# Altium footprint library IC_SMD_DUAL.PCBLIB: 187 footprints (part 8 of 12)
Each footprint in its own frame and in the unit in brackets; x right, y up, seen from the top. Pads: shape width x height; smd on the part's side, far side on the other; paste and mask are expansions set on the pad; w line width, h text height; cw(c..) or ccw(c..) is an arc to the next point about the centre after c.
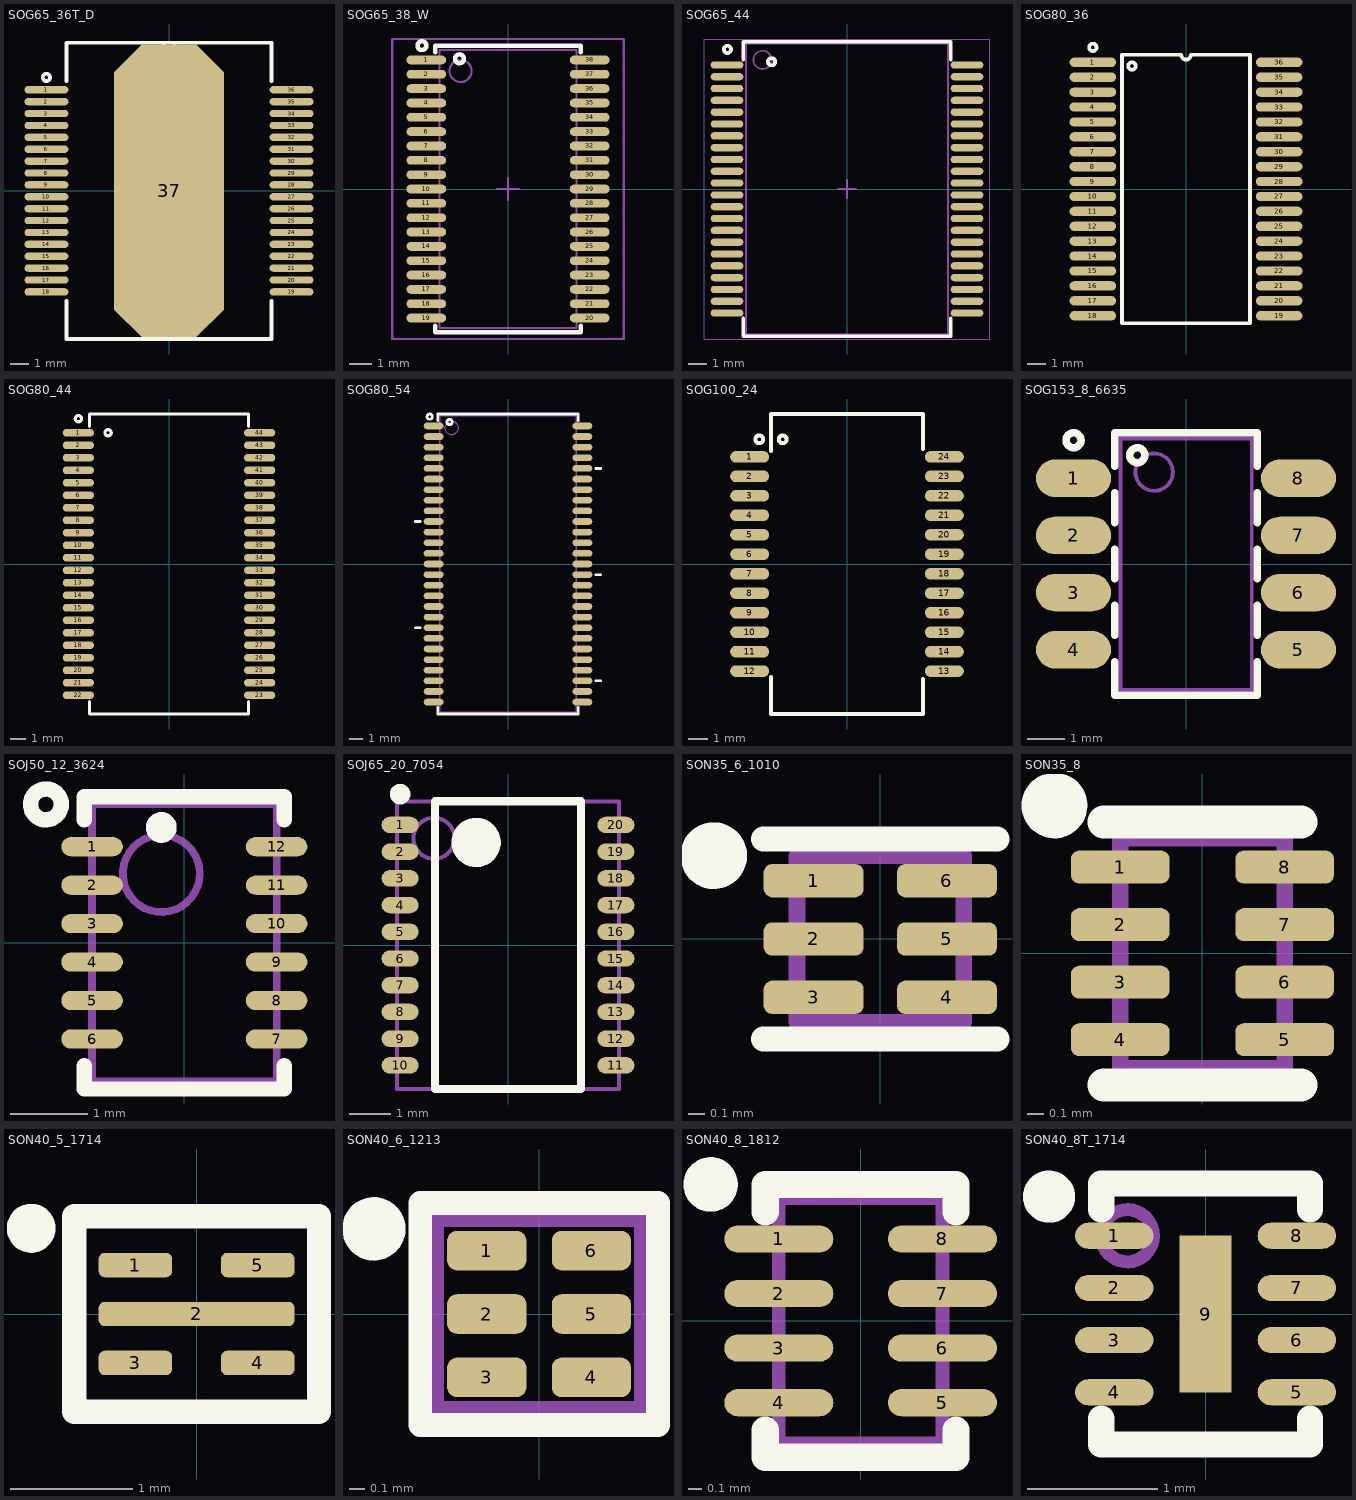
[diagram p7: the footprints below, top view; thin cyan lines are the x and y axes]

## SOG65_36T_D [mm] "HSSOP 36 DKD 11mm Width, 0.65mm pitch"
height 0.254
pads (37):
  oval 2.4x0.4 smd mask+0.075: 1(-6.7,5.525) 2(-6.7,4.875) 3(-6.7,4.225) 4(-6.7,3.575) 5(-6.7,2.925) 6(-6.7,2.275) 7(-6.7,1.625) 8(-6.7,0.975) 9(-6.7,0.325) 10(-6.7,-0.325) 11(-6.7,-0.975) 12(-6.7,-1.625) 13(-6.7,-2.275) 14(-6.7,-2.925) 15(-6.7,-3.575) 16(-6.7,-4.225) 17(-6.7,-4.875) 18(-6.7,-5.525) 19(6.7,-5.525) 20(6.7,-4.875) 21(6.7,-4.225) 22(6.7,-3.575) 23(6.7,-2.925) 24(6.7,-2.275) 25(6.7,-1.625) 26(6.7,-0.975) 27(6.7,-0.325) 28(6.7,0.325) 29(6.7,0.975) 30(6.7,1.625) 31(6.7,2.275) 32(6.7,2.925) 33(6.7,3.575) 34(6.7,4.225) 35(6.7,4.875) 36(6.7,5.525)
  oct 6x16 smd paste-8 mask+0.1: 37(0,0)
TopOverlay:
  circle w0.2: c-6.7,6.2 r0.2
  lines w0.2: -5.6,-6 -5.6,-8.1 5.6,-8.1 5.6,-6 ; -5.6,6 -5.6,8.1 5.6,8.1 5.6,6 ; -0.3,8.001 ccw(c0,8.001) 0.3,8.001
TopPaste:
  rectangle: -1.2,-1.2 -0.2,-0.2
  rectangle: -2.6,-2.6 -1.6,-1.6
  rectangle: -1.2,-2.6 -0.2,-1.6
  region: -1.6,-0.2 -2.6,-0.2 -2.6,-1.2 -1.6,-1.2
  rectangle: -1.2,-4 -0.2,-3
  rectangle: -2.6,-4 -1.6,-3
  rectangle: -1.2,-5.4 -0.2,-4.4
  rectangle: -2.6,-5.4 -1.6,-4.4
  rectangle: -1.2,-6.8 -0.2,-5.8
  rectangle: -2.6,-6.8 -1.6,-5.8
  region: 2.6,-5.8 1.6,-5.8 1.6,-6.8 2.6,-6.8
  region: 1.2,-5.8 0.2,-5.8 0.2,-6.8 1.2,-6.8
  region: 2.6,-4.4 1.6,-4.4 1.6,-5.4 2.6,-5.4
  region: 1.2,-4.4 0.2,-4.4 0.2,-5.4 1.2,-5.4
  region: 2.6,-3 1.6,-3 1.6,-4 2.6,-4
  region: 1.2,-3 0.2,-3 0.2,-4 1.2,-4
  rectangle: 1.6,-1.2 2.6,-0.2
  region: 1.2,-1.6 0.2,-1.6 0.2,-2.6 1.2,-2.6
  region: 2.6,-1.6 1.6,-1.6 1.6,-2.6 2.6,-2.6
  region: 1.2,-0.2 0.2,-0.2 0.2,-1.2 1.2,-1.2
  region: 1.2,1.2 0.2,1.2 0.2,0.2 1.2,0.2
  region: 2.6,2.6 1.6,2.6 1.6,1.6 2.6,1.6
  region: 1.2,2.6 0.2,2.6 0.2,1.6 1.2,1.6
  rectangle: 1.6,0.2 2.6,1.2
  region: 1.2,4 0.2,4 0.2,3 1.2,3
  region: 2.6,4 1.6,4 1.6,3 2.6,3
  region: 1.2,5.4 0.2,5.4 0.2,4.4 1.2,4.4
  region: 2.6,5.4 1.6,5.4 1.6,4.4 2.6,4.4
  region: 1.2,6.8 0.2,6.8 0.2,5.8 1.2,5.8
  region: 2.6,6.8 1.6,6.8 1.6,5.8 2.6,5.8
  rectangle: -2.6,5.8 -1.6,6.8
  rectangle: -1.2,5.8 -0.2,6.8
  rectangle: -2.6,4.4 -1.6,5.4
  rectangle: -1.2,4.4 -0.2,5.4
  rectangle: -2.6,3 -1.6,4
  rectangle: -1.2,3 -0.2,4
  region: -1.6,1.2 -2.6,1.2 -2.6,0.2 -1.6,0.2
  rectangle: -1.2,1.6 -0.2,2.6
  rectangle: -2.6,1.6 -1.6,2.6
  rectangle: -1.2,0.2 -0.2,1.2
3D body "User Library-HSSOP36.STEP": height 3.59, standoff -0.01, extent -7.1,-7.95 7.1,7.95

## SOG65_38_W [mm] "DA, DAE TSSOP (TI), MO-153-DD-1 (JEDEC), 38Lead, pitch: 0.65mm, 12.5x6.1x1.2mm"
height 1.2
pads (38):
  oval 1.8x0.4 smd mask+0.075: 1(-3.7,5.85) 2(-3.7,5.2) 3(-3.7,4.55) 4(-3.7,3.9) 5(-3.7,3.25) 6(-3.7,2.6) 7(-3.7,1.95) 8(-3.7,1.3) 9(-3.7,0.65) 10(-3.7,0) 11(-3.7,-0.65) 12(-3.7,-1.3) 13(-3.7,-1.95) 14(-3.7,-2.6) 15(-3.7,-3.25) 16(-3.7,-3.9) 17(-3.7,-4.55) 18(-3.7,-5.2) 19(-3.7,-5.85) 20(3.7,-5.85) 21(3.7,-5.2) 22(3.7,-4.55) 23(3.7,-3.9) 24(3.7,-3.25) 25(3.7,-2.6) 26(3.7,-1.95) 27(3.7,-1.3) 28(3.7,-0.65) 29(3.7,0) 30(3.7,0.65) 31(3.7,1.3) 32(3.7,1.95) 33(3.7,2.6) 34(3.7,3.25) 35(3.7,3.9) 36(3.7,4.55) 37(3.7,5.2) 38(3.7,5.85)
TopOverlay:
  circle w0.2: c-2.2,5.9 r0.2
  circle w0.2: c-3.9,6.5 r0.2
  lines w0.2: -3.3,-6.2 -3.3,-6.5 3.3,-6.5 3.3,-6.2 ; -3.3,6.2 -3.3,6.5 3.3,6.5 3.3,6.2
Mechanical13:
  circle w0.1: c-2.15,5.35 r0.5
  lines w0.1: -3.1,-6.3 3.1,-6.3 3.1,6.3 -3.1,6.3 -3.1,-6.3
Mechanical15:
  lines w0.1: -0.5,0 0.5,0 ; 0,-0.5 0,0.5 ; -5.25,-6.8 5.25,-6.8 5.25,6.8 -5.25,6.8 -5.25,-6.8
3D body: height 1.2, standoff 0.05, extent -3.1,-6.3 3.1,6.3

## SOG65_44 [mm] "HSSOP-44, 11mm Width, 0.65mm pitch"
height 3.6
pads (44):
  oval 1.8x0.4 smd mask+0.075: 1(-6.6,6.825) 2(-6.6,6.175) 3(-6.6,5.525) 4(-6.6,4.875) 5(-6.6,4.225) 6(-6.6,3.575) 7(-6.6,2.925) 8(-6.6,2.275) 9(-6.6,1.625) 10(-6.6,0.975) 11(-6.6,0.325) 12(-6.6,-0.325) 13(-6.6,-0.975) 14(-6.6,-1.625) 15(-6.6,-2.275) 16(-6.6,-2.925) 17(-6.6,-3.575) 18(-6.6,-4.225) 19(-6.6,-4.875) 20(-6.6,-5.525) 21(-6.6,-6.175) 22(-6.6,-6.825) 23(6.6,-6.825) 24(6.6,-6.175) 25(6.6,-5.525) 26(6.6,-4.875) 27(6.6,-4.225) 28(6.6,-3.575) 29(6.6,-2.925) 30(6.6,-2.275) 31(6.6,-1.625) 32(6.6,-0.975) 33(6.6,-0.325) 34(6.6,0.325) 35(6.6,0.975) 36(6.6,1.625) 37(6.6,2.275) 38(6.6,2.925) 39(6.6,3.575) 40(6.6,4.225) 41(6.6,4.875) 42(6.6,5.525) 43(6.6,6.175) 44(6.6,6.825)
TopOverlay:
  circle w0.2: c-4.15,7 r0.2
  circle w0.2: c-6.575,7.675 r0.2
  lines w0.2: -5.7,-7.1 -5.7,-8.1 5.7,-8.1 5.7,-7.1 ; -5.7,7.1 -5.7,8.1 5.7,8.1 5.7,7.1
Mechanical13:
  circle w0.1: c-4.65,7.1 r0.5
  lines w0.1: -5.55,-8 5.55,-8 5.55,8 -5.55,8 -5.55,-8
Mechanical15:
  lines w0.05: -7.85,-8.25 7.85,-8.25 7.85,8.25 -7.85,8.25 -7.85,-8.25
  lines w0.1: -0.5,0 0.5,0 ; 0,-0.5 0,0.5
3D body "SA57AHU.step": height 3.6, standoff 0, extent -7.1,-8 7.1,8

## SOG80_36 [mm]
pads (36):
  oval 2.5x0.5 smd: 1(-5,6.8) 2(-5,6) 3(-5,5.2) 4(-5,4.4) 5(-5,3.6) 6(-5,2.8) 7(-5,2) 8(-5,1.2) 9(-5,0.4) 10(-5,-0.4) 11(-5,-1.2) 12(-5,-2) 13(-5,-2.8) 14(-5,-3.6) 15(-5,-4.4) 16(-5,-5.2) 17(-5,-6) 18(-5,-6.8) 19(5,-6.8) 20(5,-6) 21(5,-5.2) 22(5,-4.4) 23(5,-3.6) 24(5,-2.8) 25(5,-2) 26(5,-1.2) 27(5,-0.4) 28(5,0.4) 29(5,1.2) 30(5,2) 31(5,2.8) 32(5,3.6) 33(5,4.4) 34(5,5.2) 35(5,6) 36(5,6.8)
TopOverlay:
  circle w0.2: c-2.9,6.6 r0.2
  circle w0.2: c-5,7.6 r0.2
  lines w0.2: -3.438,-7.2 -3.438,7.2 -0.254,7.2 ccw(c0,7.2) 0.254,7.2 3.438,7.2 3.438,-7.2 -3.438,-7.2

## SOG80_44 [mm]
pads (44):
  oval 2x0.5 smd: 1(-5.8,8.4) 2(-5.8,7.6) 3(-5.8,6.8) 4(-5.8,6) 5(-5.8,5.2) 6(-5.8,4.4) 7(-5.8,3.6) 8(-5.8,2.8) 9(-5.8,2) 10(-5.8,1.2) 11(-5.8,0.4) 12(-5.8,-0.4) 13(-5.8,-1.2) 14(-5.8,-2) 15(-5.8,-2.8) 16(-5.8,-3.6) 17(-5.8,-4.4) 18(-5.8,-5.2) 19(-5.8,-6) 20(-5.8,-6.8) 21(-5.8,-7.6) 22(-5.8,-8.4) 23(5.8,-8.4) 24(5.8,-7.6) 25(5.8,-6.8) 26(5.8,-6) 27(5.8,-5.2) 28(5.8,-4.4) 29(5.8,-3.6) 30(5.8,-2.8) 31(5.8,-2) 32(5.8,-1.2) 33(5.8,-0.4) 34(5.8,0.4) 35(5.8,1.2) 36(5.8,2) 37(5.8,2.8) 38(5.8,3.6) 39(5.8,4.4) 40(5.8,5.2) 41(5.8,6) 42(5.8,6.8) 43(5.8,7.6) 44(5.8,8.4)
TopOverlay:
  circle w0.2: c-3.9,8.4 r0.2
  circle w0.2: c-5.8,9.3 r0.2
  lines w0.2: -5.1,-8.8 -5.1,-9.6 5.1,-9.6 5.1,-8.8 ; -5.1,8.8 -5.1,9.6 5.1,9.6 5.1,8.8
3D body "SW3dPS-TSOP2-44.STEP": height 1.3, standoff -0.4, extent -5.88,-9.1 5.88,9.11

## SOG80_54 [mm]
height 1.2
pads (54):
  oval 1.5x0.5 smd mask+0.1: 1(-5.6,10.4) 2(-5.6,9.6) 3(-5.6,8.8) 4(-5.6,8) 5(-5.6,7.2) 6(-5.6,6.4) 7(-5.6,5.6) 8(-5.6,4.8) 9(-5.6,4) 10(-5.6,3.2) 11(-5.6,2.4) 12(-5.6,1.6) 13(-5.6,0.8) 14(-5.6,0) 15(-5.6,-0.8) 16(-5.6,-1.6) 17(-5.6,-2.4) 18(-5.6,-3.2) 19(-5.6,-4) 20(-5.6,-4.8) 21(-5.6,-5.6) 22(-5.6,-6.4) 23(-5.6,-7.2) 24(-5.6,-8) 25(-5.6,-8.8) 26(-5.6,-9.6) 27(-5.6,-10.4) 28(5.6,-10.4) 29(5.6,-9.6) 30(5.6,-8.8) 31(5.6,-8) 32(5.6,-7.2) 33(5.6,-6.4) 34(5.6,-5.6) 35(5.6,-4.8) 36(5.6,-4) 37(5.6,-3.2) 38(5.6,-2.4) 39(5.6,-1.6) 40(5.6,-0.8) 41(5.6,0) 42(5.6,0.8) 43(5.6,1.6) 44(5.6,2.4) 45(5.6,3.2) 46(5.6,4) 47(5.6,4.8) 48(5.6,5.6) 49(5.6,6.4) 50(5.6,7.2) 51(5.6,8) 52(5.6,8.8) 53(5.6,9.6) 54(5.6,10.4)
TopOverlay:
  circle w0.2: c-4.4,10.7 r0.2
  circle w0.2: c-5.9,11.1 r0.2
  lines w0.2: -7,-4.8 -6.6,-4.8 ; -7,3.2 -6.6,3.2 ; -5.3,-10.8 -5.3,-11.3 5.3,-11.3 5.3,-10.8 ; -5.3,10.8 -5.3,11.3 5.3,11.3 5.3,10.8 ; 6.6,-8.8 7,-8.8 ; 6.6,-0.8 7,-0.8 ; 6.6,7.2 7,7.2
Mechanical13:
  circle w0.1: c-4.25,10.25 r0.5
  lines w0.1: -5.15,-11.15 5.15,-11.15 5.15,11.15 -5.15,11.15 -5.15,-11.15
3D body "User Library-TSOPII-54.step": height 1.25, standoff 0, extent -5.88,-11.11 5.88,11.11

## SOG100_24 [mm] "ETHERNET TRANSFORMER, 15.24X10.2mm, 1mm pitch,HX5084NL"
pads (24):
  oval 2x0.6 smd mask+0.075: 1(-5,5.5) 2(-5,4.5) 3(-5,3.5) 4(-5,2.5) 5(-5,1.5) 6(-5,0.5) 7(-5,-0.5) 8(-5,-1.5) 9(-5,-2.5) 10(-5,-3.5) 11(-5,-4.5) 12(-5,-5.5) 13(5,-5.5) 14(5,-4.5) 15(5,-3.5) 16(5,-2.5) 17(5,-1.5) 18(5,-0.5) 19(5,0.5) 20(5,1.5) 21(5,2.5) 22(5,3.5) 23(5,4.5) 24(5,5.5)
TopOverlay:
  circle w0.2: c-3.3,6.4 r0.2
  circle w0.2: c-4.5,6.4 r0.2
  lines w0.2: -3.9,-5.8 -3.9,-7.7 3.9,-7.7 3.9,-5.9 ; -3.9,5.8 -3.9,7.7 3.9,7.7 3.9,5.9
3D body "HX5084NL_3D.STEP": height 4.14, standoff 0, extent -5.26,-7.555 5.3,7.555

## SOG153_8_6635 [mm] "SM-8, SM8, 6.6X3.5mm, pitch 1.53mm"
height 1.7
pads (8):
  oval 2x1 smd: 1(-3,2.286) 2(-3,0.762) 3(-3,-0.762) 4(-3,-2.286) 5(3,-2.286) 6(3,-0.762) 7(3,0.762) 8(3,2.286)
TopOverlay:
  circle w0.2: c-3,3.3 r0.2
  circle w0.2: c-1.3,2.9 r0.2
  lines w0.2: -1.9,-2.6 -1.9,-3.5 1.9,-3.5 1.9,-2.6 ; -1.9,-1.9 -1.9,-1.1 ; -1.9,-0.4 -1.9,0.4 ; -1.9,1.1 -1.9,1.9 ; -1.9,2.6 -1.9,3.5 1.9,3.5 1.9,2.6 ; 1.9,-1.9 1.9,-1.1 ; 1.9,-0.4 1.9,0.4 ; 1.9,1.1 1.9,1.9
Mechanical13:
  circle w0.1: c-0.85,2.45 r0.5
  lines w0.1: -1.75,-3.35 -1.75,3.35 1.75,3.35 1.75,-3.35 -1.75,-3.35
3D body "SOG153_8_6635.step": height 1.7, standoff 0, extent -3.425,-3.35 3.425,3.35

## SOJ50_12_3624 [mm] "SOJ, 12-Leads, Body 3.60x2.40mm, Pitch 0.50mm"
height 1.2
pads (12):
  oval 0.8x0.25 smd mask+0.075: 1(-1.2,1.25) 2(-1.2,0.75) 3(-1.2,0.25) 4(-1.2,-0.25) 5(-1.2,-0.75) 6(-1.2,-1.25) 7(1.2,-1.25) 8(1.2,-0.75) 9(1.2,-0.25) 10(1.2,0.25) 11(1.2,0.75) 12(1.2,1.25)
TopOverlay:
  circle w0.2: c-0.3,1.5 r0.1
  circle w0.2: c-1.8,1.8 r0.2
  lines w0.2: -1.3,-1.6 -1.3,-1.9 1.3,-1.9 1.3,-1.6 ; -1.3,1.6 -1.3,1.9 1.3,1.9 1.3,1.6
Mechanical13:
  circle w0.1: c-0.3,0.9 r0.5
  lines w0.1: -1.2,-1.8 1.2,-1.8 1.2,1.8 -1.2,1.8 -1.2,-1.8
3D body "SOICJ127P600-8N.step": height 1.2, standoff 0, extent -1.2,-1.8 1.2,1.8

## SOJ65_20_7054 [mm] "VSOJ-20, 7x5.4x1.3mm, 0.65mm pitch"
height 1.3
pads (20):
  oval 0.9x0.4 smd: 1(-2.625,2.925) 2(-2.625,2.275) 3(-2.625,1.625) 4(-2.625,0.975) 5(-2.625,0.325) 6(-2.625,-0.325) 7(-2.625,-0.975) 8(-2.625,-1.625) 9(-2.625,-2.275) 10(-2.625,-2.925) 11(2.625,-2.925) 12(2.625,-2.275) 13(2.625,-1.625) 14(2.625,-0.975) 15(2.625,-0.325) 16(2.625,0.325) 17(2.625,0.975) 18(2.625,1.625) 19(2.625,2.275) 20(2.625,2.925)
TopOverlay:
  circle w0.6: c-0.775,2.5 r0.3
  circle w0.25: c-2.625,3.675 r0.125
  lines w0.2: -1.775,-3.5 1.775,-3.5 1.775,3.5 -1.775,3.5 -1.775,-3.5
Mechanical13:
  circle w0.1: c-1.8,2.6 r0.5
  lines w0.1: -2.7,-3.5 2.7,-3.5 2.7,3.5 -2.7,3.5 -2.7,-3.5
3D body "SOJ65_20_7054.step": height 1.3, standoff 0.1, extent -2.7,-3.5 2.7,3.5

## SON35_6_1010 [mm] "DSF X2SON, 0.35mm pitch, 1x1mm"
height 0.4
pads (6):
  rrect50% 0.6x0.2 smd mask+0.05: 1(-0.4,0.35) 2(-0.4,0) 3(-0.4,-0.35) 4(0.4,-0.35) 5(0.4,0) 6(0.4,0.35)
TopOverlay:
  circle w0.2: c-1,0.5 r0.1
  lines w0.15: -0.7,-0.6 0.7,-0.6 ; -0.7,0.6 0.7,0.6
Mechanical13:
  lines w0.1: -0.5,-0.5 0.5,-0.5 0.5,0.5 -0.5,0.5 -0.5,-0.5
3D body "SON35_6_1010.step": height 0.4, standoff 0, extent -0.501,-0.5 0.501,0.5

## SON35_8 [mm] "X2SON-8-DQE, pitch: 0.35mm, 1.4mmX1.00mm"
height 0.4
pads (8):
  rrect50% 0.6x0.2 smd mask+0.05: 1(-0.5,0.525) 2(-0.5,0.175) 3(-0.5,-0.175) 4(-0.5,-0.525) 5(0.5,-0.525) 6(0.5,-0.175) 7(0.5,0.175) 8(0.5,0.525)
TopOverlay:
  circle w0.2: c-0.9,0.9 r0.1
  lines w0.2: -0.6,-0.8 0.6,-0.8 ; -0.6,0.8 0.6,0.8
Mechanical13:
  lines w0.1: -0.5,-0.7 0.5,-0.7 0.5,0.7 -0.5,0.7 -0.5,-0.7
3D body: height 0.4, standoff 0, extent -0.5,-0.7 0.5,0.7

## SON40_5_1714 [mm] "UFDFPN5, pitch:0.4mm 1.7x1.4x0.5mm"
height 0.5
pads (5):
  rrect50% 0.6x0.2 smd mask+0.05: 1(-0.5,0.4) 3(-0.5,-0.4) 4(0.5,-0.4) 5(0.5,0.4)
  rrect50% 1.6x0.2 smd mask+0.05: 2(0,0)
TopOverlay:
  circle w0.2: c-1.35,0.7 r0.1
  lines w0.2: -1,-0.8 1,-0.8 1,0.8 -1,0.8 -1,-0.8
3D body: height 0.6, standoff 0, extent -0.9,-0.7 0.9,0.7

## SON40_6_1213 [mm] "DFN6 1.2x1.3mm, 6-Leads, Pitch 0.40mm"
height 0.4
pads (6):
  rrect50% 0.5x0.25 smd mask+0.05: 1(-0.33,0.4) 2(-0.33,0) 3(-0.33,-0.4) 4(0.33,-0.4) 5(0.33,0) 6(0.33,0.4)
TopOverlay:
  circle w0.2: c-1.042,0.537 r0.1
  lines w0.15: -0.75,-0.7 0.75,-0.7 0.75,0.7 -0.75,0.7 -0.75,-0.7
Mechanical13:
  lines w0.1: -0.65,-0.6 0.65,-0.6 0.65,0.6 -0.65,0.6 -0.65,-0.6
3D body "SON50_6_1213.step": height 0.4, standoff 0, extent -0.651,-0.6 0.651,0.6

## SON40_8_1812 [mm] "X2SON8 DQM, 1.8X1.2mm, 0.4mm pitch"
height 0.4
pads (8):
  oval 0.8x0.2 smd mask+0.05: 1(-0.6,0.6) 2(-0.6,0.2) 3(-0.6,-0.2) 4(-0.6,-0.6) 5(0.6,-0.6) 6(0.6,-0.2) 7(0.6,0.2) 8(0.6,0.6)
TopOverlay:
  circle w0.2: c-1.1,1 r0.1
  lines w0.2: -0.7,-0.8 -0.7,-1 0.7,-1 0.7,-0.8 ; -0.7,0.8 -0.7,1 0.7,1 0.7,0.8
Mechanical13:
  lines w0.1: -0.6,-0.9 0.6,-0.9 0.6,0.9 -0.6,0.9 -0.6,-0.9
3D body "SON40_8.step": height 0.4, standoff 0, extent -0.601,-0.9 0.601,0.9

## SON40_8T_1714 [mm] "DFN, TDFN pitch:0.4mm 1.7X1.35X0.8mm, 1.6X1.4mm"
height 0.9
pads (9):
  oval 0.6x0.2 smd mask+0.05: 1(-0.7,0.6) 2(-0.7,0.2) 3(-0.7,-0.2) 4(-0.7,-0.6) 5(0.7,-0.6) 6(0.7,-0.2) 7(0.7,0.2) 8(0.7,0.6)
  rect 0.4x1.2 smd mask+0.05: 9(0,0)
TopOverlay:
  circle w0.2: c-1.2,0.9 r0.1
  lines w0.2: -0.8,-0.8 -0.8,-1 0.8,-1 0.8,-0.8 ; -0.8,0.8 -0.8,1 0.8,1 0.8,0.8
Mechanical13:
  circle w0.1: c-0.6,0.6 r0.2
3D body: height 0.8, standoff 0, extent -0.7,-0.9 0.7,0.9